# EAGLE library part ADL5534 (library NewSDR)
Analog Devices 20 MHz to 500 MHz Dual IF Amplifier
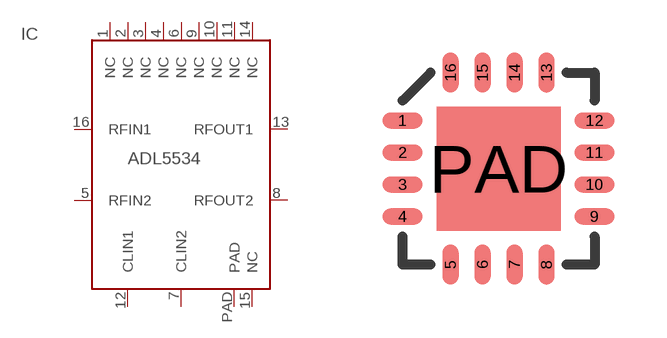
[diagram p91: symbol with the pads of LFCSP16; footprint LFCSP16]

Designator prefix IC

## ADL5534  [LFCSP16]
1  NC  pwr
2  NC  pwr
3  NC  pwr
4  NC  pwr
5  RFIN2  in
6  NC  pwr
7  CLIN2  pas
8  RFOUT2  out
9  NC  pwr
10  NC  pwr
11  NC  pwr
12  CLIN1  pas
13  RFOUT1  out
14  NC  pwr
15  NC  pwr
16  RFIN1  in
PAD  PAD  pwr

## Footprint LFCSP16 (pad centres in mm)
16-Lead Lead Frame Chip Scale Package
smd 1 x 0.4: 1 -2.4,1.2; 2 -2.4,0.4; 3 -2.4,-0.4; 4 -2.4,-1.2; 9 2.4,-1.2; 10 2.4,-0.4; 11 2.4,0.4; 12 2.4,1.2
smd 0.4 x 1: 5 -1.2,-2.4; 6 -0.4,-2.4; 7 0.4,-2.4; 8 1.2,-2.4; 13 1.2,2.4; 14 0.4,2.4; 15 -0.4,2.4; 16 -1.2,2.4
smd 3.1 x 3.1: PAD 0,0